# Altium footprint library fuses.PcbLib: 1 footprints
Each footprint in its own frame and in the unit in brackets; x right, y up, seen from the top. Pads: shape width x height; smd on the part's side, far side on the other; paste and mask are expansions set on the pad; w line width, h text height; cw(c..) or ccw(c..) is an arc to the next point about the centre after c.
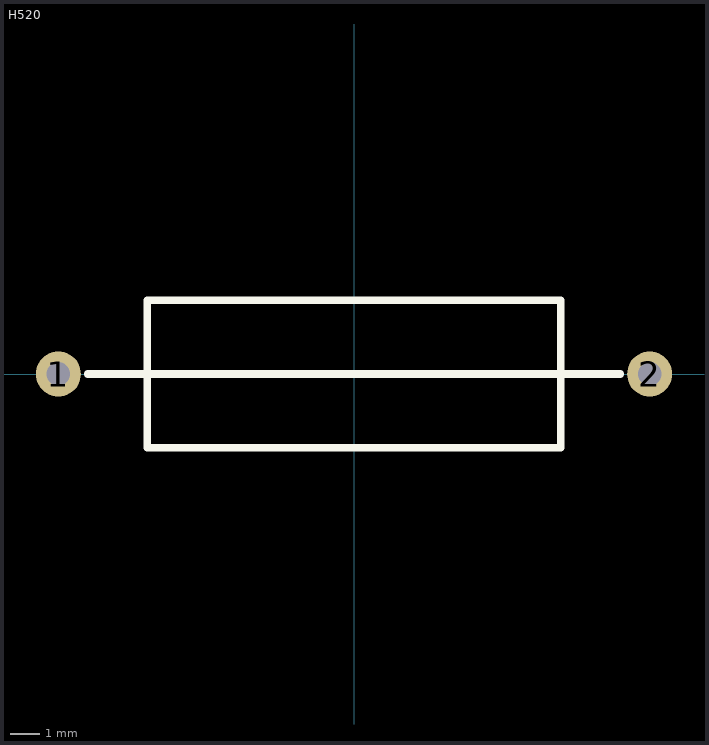
[diagram p0: the footprint, top view; thin cyan lines are the x and y axes]

## H520 [mil] "Fuse"
height 236.22
pads (2):
  round 60 hole 31.5: 1(-393.7,0) 2(393.7,0)
Top Overlay:
  lines w10: -354.33,0 -275.59,0 275.59,0 354.33,0 ; -275.59,-98.43 275.59,-98.43 275.59,98.43 -275.59,98.43 -275.59,-98.43